# Altium footprint library CAPC160X80X80L35N.PcbLib: 1 footprints
Each footprint in its own frame and in the unit in brackets; x right, y up, seen from the top. Pads: shape width x height; smd on the part's side, far side on the other; paste and mask are expansions set on the pad; w line width, h text height; cw(c..) or ccw(c..) is an arc to the next point about the centre after c.
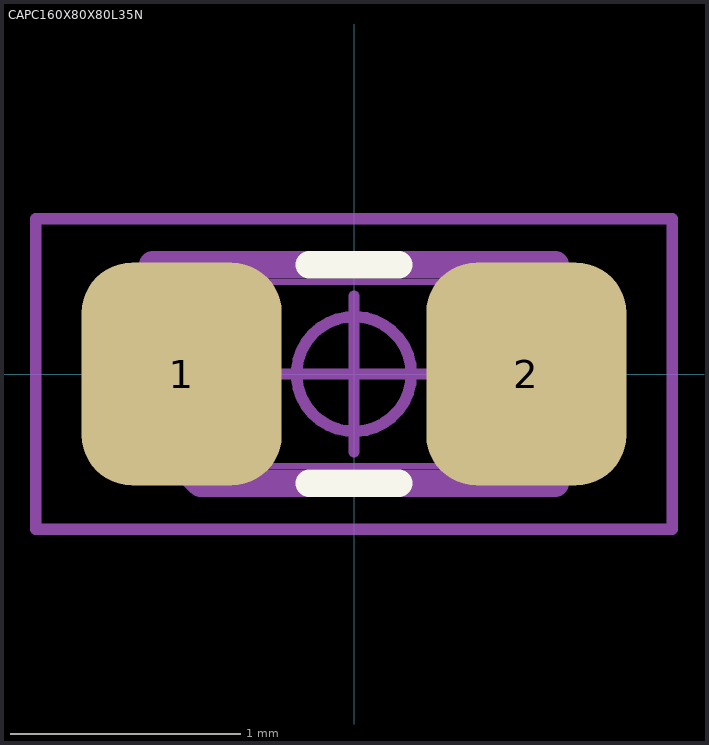
[diagram p0: the footprint, top view; thin cyan lines are the x and y axes]

## CAPC160X80X80L35N [mm] "Capacitor, Non-polarized, Chip; 1.60 mm L X 0.80 mm W X 0.80 mm H Body"
height 0.8
pads (2):
  rrect50% 0.871x0.97 smd: 1(-0.75,0) 2(0.75,0)
Top Overlay:
  lines w0.12: -0.194,-0.475 0.194,-0.475 ; -0.194,0.475 0.194,0.475
Mechanical 3:
  lines w0.12: -0.875,-0.268 -0.875,0.475 0.875,0.475 0.875,-0.475 -0.668,-0.475 -0.875,-0.268
Mechanical 5:
  lines w0.025: -0.8,-0.4 0.8,-0.4 ; -0.8,-0.4 -0.8,0.4 ; -0.8,-0.4 -0.8,0.4 ; -0.8,-0.4 -0.45,-0.4 -0.45,0.4 -0.8,0.4 ; -0.8,0.4 0.8,0.4 ; 0.8,-0.4 0.8,0.4 ; 0.8,-0.4 0.45,-0.4 0.45,0.4 0.8,0.4 ; 0.8,-0.4 0.8,0.4
Mechanical 7:
  circle w0.05: c0,0 r0.25
  lines w0.05: -0.338,0 0.338,0 ; 0,-0.338 0,0.338 ; -1.385,-0.675 1.385,-0.675 1.385,0.675 -1.385,0.675 -1.385,-0.675
Mechanical 9:
  text "'.Designator'" at -5.817,0.745 h1.02
3D body "CAPC160X80X80L35.STEP": height 0.8, standoff 0, extent -0.8,-0.4 0.8,0.4
3D body: height 17.4, standoff 0, extent -1.385,-0.675 1.385,0.675